# EAGLE library part ATMEGA324P (library DigitalIC)
Digikey Part Number: ATMEGA324P-20AU-ND Manufacturer Part Number: ATMEGA324P-20AU
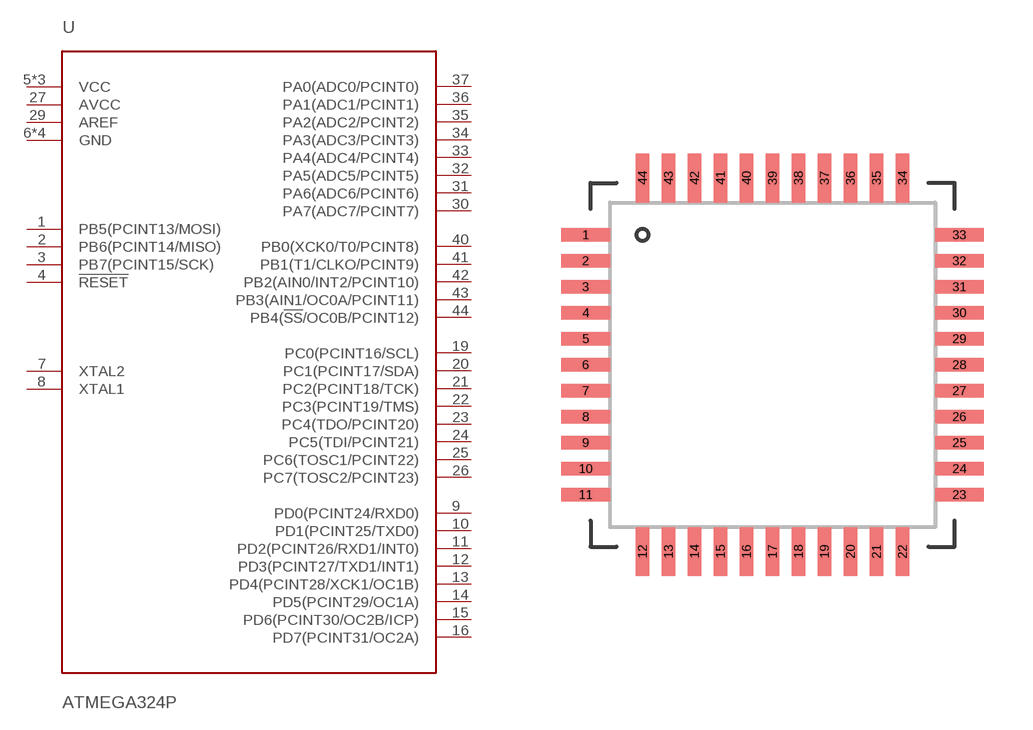
[diagram p0: symbol with the pads of TQFP44; footprint TQFP44]

Designator prefix U

## ATMEGA324P  [TQFP44]
1  PB5(PCINT13/MOSI)
2  PB6(PCINT14/MISO)
3  PB7(PCINT15/SCK)
4  !RESET
5  VCC
6  GND
7  XTAL2
8  XTAL1
9  PD0(PCINT24/RXD0)
10  PD1(PCINT25/TXD0)
11  PD2(PCINT26/RXD1/INT0)
12  PD3(PCINT27/TXD1/INT1)
13  PD4(PCINT28/XCK1/OC1B)
14  PD5(PCINT29/OC1A)
15  PD6(PCINT30/OC2B/ICP)
16  PD7(PCINT31/OC2A)
17  VCC
18  GND
19  PC0(PCINT16/SCL)
20  PC1(PCINT17/SDA)
21  PC2(PCINT18/TCK)
22  PC3(PCINT19/TMS)
23  PC4(TDO/PCINT20)
24  PC5(TDI/PCINT21)
25  PC6(TOSC1/PCINT22)
26  PC7(TOSC2/PCINT23)
27  AVCC
28  GND
29  AREF
30  PA7(ADC7/PCINT7)
31  PA6(ADC6/PCINT6)
32  PA5(ADC5/PCINT5)
33  PA4(ADC4/PCINT4)
34  PA3(ADC3/PCINT3)
35  PA2(ADC2/PCINT2)
36  PA1(ADC1/PCINT1)
37  PA0(ADC0/PCINT0)
38  VCC
39  GND
40  PB0(XCK0/T0/PCINT8)
41  PB1(T1/CLKO/PCINT9)
42  PB2(AIN0/INT2/PCINT10)
43  PB3(AIN1/OC0A/PCINT11)
44  PB4(!SS!/OC0B/PCINT12)

## Footprint TQFP44 (pad centres in mm)
smd 1.5 x 0.406: 1 -5.75,4; 2 -5.75,3.2; 3 -5.75,2.4; 4 -5.75,1.6; 5 -5.75,0.8; 6 -5.75,0; 7 -5.75,-0.8; 8 -5.75,-1.6; 9 -5.75,-2.4; 10 -5.75,-3.2; 11 -5.75,-4; 23 5.75,-4; 24 5.75,-3.2; 25 5.75,-2.4; 26 5.75,-1.6; 27 5.75,-0.8; 28 5.75,0; 29 5.75,0.8; 30 5.75,1.6; 31 5.75,2.4; 32 5.75,3.2; 33 5.75,4
smd 0.406 x 1.5: 12 -4,-5.75; 13 -3.2,-5.75; 14 -2.4,-5.75; 15 -1.6,-5.75; 16 -0.8,-5.75; 17 0,-5.75; 18 0.8,-5.75; 19 1.6,-5.75; 20 2.4,-5.75; 21 3.2,-5.75; 22 4,-5.75; 34 4,5.75; 35 3.2,5.75; 36 2.4,5.75; 37 1.6,5.75; 38 0.8,5.75; 39 0,5.75; 40 -0.8,5.75; 41 -1.6,5.75; 42 -2.4,5.75; 43 -3.2,5.75; 44 -4,5.75